# Altium footprint library remote.PcbLib: 24 footprints (part 2 of 2)
Each footprint in its own frame and in the unit in brackets; x right, y up, seen from the top. Pads: shape width x height; smd on the part's side, far side on the other; paste and mask are expansions set on the pad; w line width, h text height; cw(c..) or ccw(c..) is an arc to the next point about the centre after c.
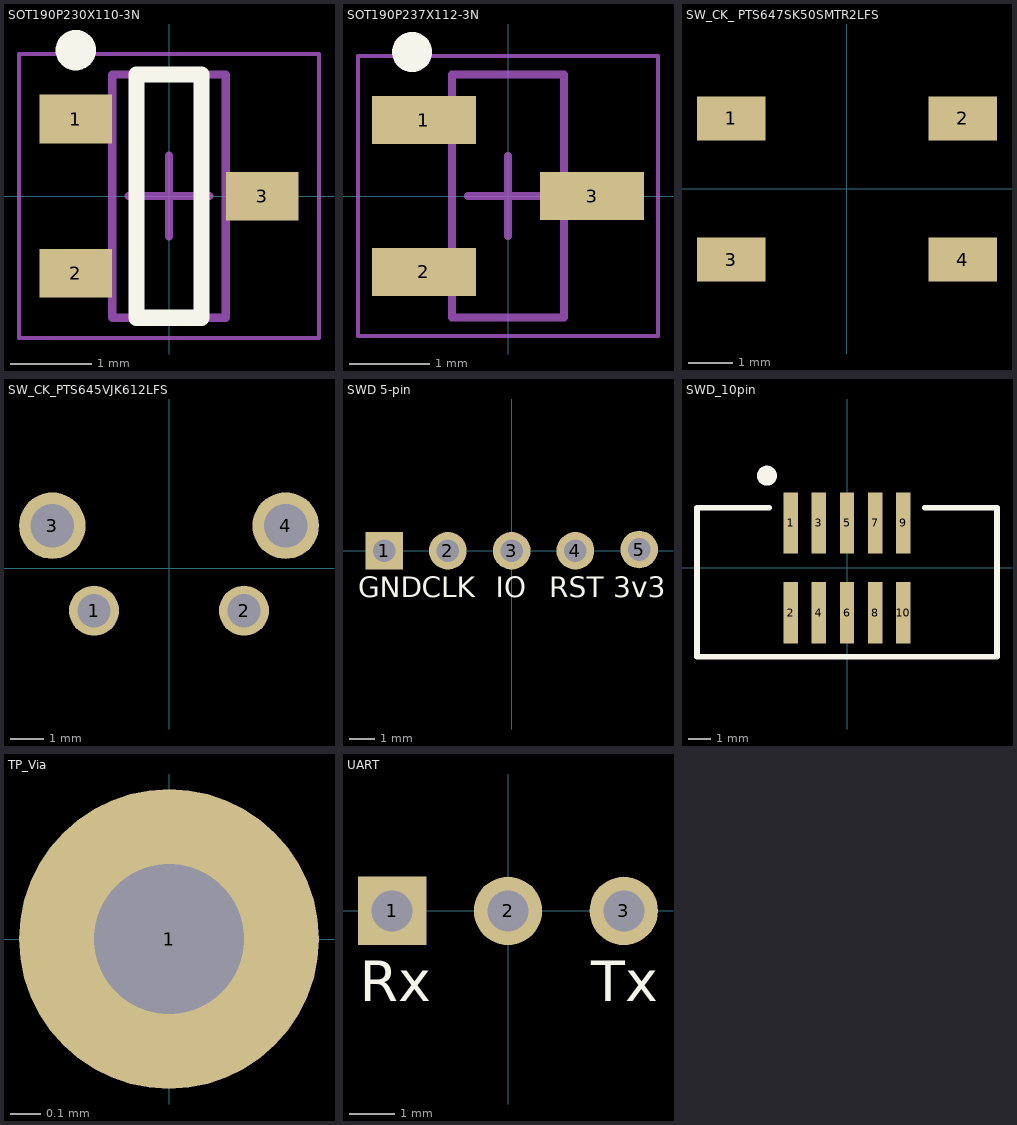
[diagram p1: the footprints below, top view; thin cyan lines are the x and y axes]

## SOT190P230X110-3N [mm] "SOT223, 3-Leads, Body 2.90x2.30mm (avg), Pitch 1.90mm, IPC Medium Density"
height 1.1
pads (3):
  rect 0.9x0.6 smd: 1(-1.15,0.95) 2(-1.15,-0.95) 3(1.15,0)
Top Overlay:
  circle w0.25: c-1.15,1.8 r0.125
  lines w0.2: -0.4,-1.5 -0.4,1.5 0.4,1.5 0.4,-1.5 -0.4,-1.5
Mechanical 13:
  lines w0.1: -0.7,-1.5 -0.7,1.5 0.7,1.5 0.7,-1.5 -0.7,-1.5
Mechanical 15:
  lines w0.05: -1.85,-1.75 -1.85,1.75 1.85,1.75 1.85,-1.75 -1.85,-1.75
  lines w0.1: -0.5,0 0.5,0 ; 0,-0.5 0,0.5
3D body: height 1.1, standoff 0.1, extent -0.7,-1.5 0.7,1.5

## SOT190P237X112-3N [mm] "SOT223, 3-Leads, Body 2.92x2.37mm (avg), Pitch 1.90mm, IPC Medium Density"
height 1.12
pads (3):
  rect 1.3x0.6 smd: 1(-1.05,0.95) 2(-1.05,-0.95) 3(1.05,0)
Top Overlay:
  circle w0.25: c-1.2,1.8 r0.125
Mechanical 13:
  lines w0.1: -0.7,-1.52 0.7,-1.52 0.7,1.52 -0.7,1.52 -0.7,-1.52
Mechanical 15:
  lines w0.05: -1.875,-1.75 -1.875,1.75 1.875,1.75 1.875,-1.75 -1.875,-1.75
  lines w0.1: -0.5,0 0.5,0 ; 0,-0.5 0,0.5
3D body: height 1.12, standoff 0.02, extent -0.7,-1.52 0.7,1.52

## SW_CK_ PTS647SK50SMTR2LFS [mm] "Tactile Switch SPST-NO Top Actuated Surface Mount"
pads (4):
  rect 1.55x1 smd: 1(-2.625,1.6) 2(2.625,1.6) 3(-2.625,-1.6) 4(2.625,-1.6)

## SW_CK_PTS645VJK612LFS [mm] "Tactile Switch SPST-NO Side Actuated Through Hole, Right Angle"
pads (4):
  round 1.5 hole 1: 1(-2.25,-1.275) 2(2.25,-1.275)
  round 2 hole 1.3: 3(-3.5,1.275) 4(3.5,1.275)

## SWD 5-pin [mm] "5-pin SWD connector"
pads (5):
  rect 1.5x1.5 hole 0.9: 1(-5.08,0)
  round 1.5 hole 0.9: 2(-2.54,0) 3(0,0) 4(2.54,0) 5(5.08,0.051)
Top Overlay:
  text "GND" at -6.121,-1.854 h0.81
  text "CLK" at -3.581,-1.854 h0.81
  text "IO" at -0.635,-1.854 h0.81
  text "RST" at 1.499,-1.854 h0.81
  text "3v3" at 4.039,-1.854 h0.81

## SWD_10pin [mm]
pads (10):
  rect 0.65x2.76 smd: 1(-2.54,2.02) 2(-2.54,-2.02) 3(-1.27,2.02) 4(-1.27,-2.02) 5(0,2.02) 6(0,-2.02) 7(1.27,2.02) 8(1.27,-2.02) 9(2.54,2.02) 10(2.54,-2.02)
Top Overlay:
  circle w0.5: c-3.6,4.15 r0.2
  lines w0.254: -3.5,2.7 -6.75,2.7 -6.75,-4 6.75,-4 6.75,2.7 3.5,2.7
3D body "20021521-00010XXLFc.stp": height 5.41, standoff -0.19, extent -6.35,-2.775 6.3,2.725

## TP_Via [mm] "Test Point Via"
pads (1):
  round 1 hole 0.5: 1(0,0)

## UART [mm] "3-pin UART 100mil header"
pads (3):
  rect 1.5x1.5 hole 0.9: 1(-2.54,0)
  round 1.5 hole 0.9: 2(0,0) 3(2.54,0)
Top Overlay:
  text "Rx" at -3.251,-1.981 h0.89
  text "Tx" at 1.829,-1.981 h0.89